# Altium footprint library PCB - LEADLESS - QFN - AD FC2QFN-17 F173A3F+1F.PCBLIB: 1 footprints
Each footprint in its own frame and in the unit in brackets; x right, y up, seen from the top. Pads: shape width x height; smd on the part's side, far side on the other; paste and mask are expansions set on the pad; w line width, h text height; cw(c..) or ccw(c..) is an arc to the next point about the centre after c.
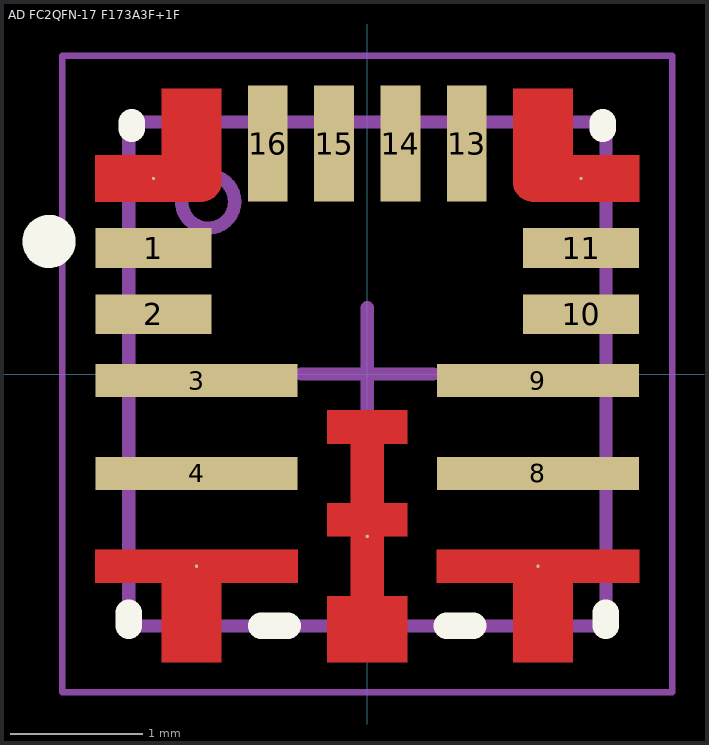
[diagram p0: the footprint, top view; thin cyan lines are the x and y axes]

## AD FC2QFN-17 F173A3F+1F [mm] "17-QFN (3.5x3.75)"
height 0.8
pads (17):
  rect 0.875x0.3 smd: 1(-1.613,0.95) 2(-1.613,0.45) 10(1.613,0.45) 11(1.613,0.95)
  rect 1.525x0.25 smd: 3(-1.288,-0.05) 4(-1.288,-0.75) 8(1.288,-0.75) 9(1.288,-0.05)
  round 0.025 smd: 5(-1.288,-1.45) 6(0,-1.225) 7(1.288,-1.45) 12(1.613,1.475) 17(-1.613,1.475)
  rect 0.3x0.875 smd: 13(0.75,1.737) 14(0.25,1.737) 15(-0.25,1.737) 16(-0.75,1.737)
Top Layer:
  region: -0.3,-0.275 0.3,-0.275 0.3,-0.525 0.125,-0.525 0.125,-0.975 0.3,-0.975 0.3,-1.225 0.125,-1.225 0.125,-1.675 0.3,-1.675 0.3,-2.175 -0.3,-2.175 -0.3,-1.675 -0.125,-1.675 -0.125,-1.225 -0.3,-1.225 -0.3,-0.975 -0.125,-0.975 -0.125,-0.525 -0.3,-0.525
  region: -1.1,1.45 -1.1,2.15 -1.55,2.15 -1.55,1.65 -2.05,1.65 -2.05,1.3 -1.25,1.3 -1.235,1.3 -1.206,1.306 -1.179,1.317 -1.154,1.333 -1.133,1.354 -1.117,1.379 -1.106,1.406 -1.1,1.435
  region: -0.525,-1.575 -1.1,-1.575 -1.1,-2.175 -1.55,-2.175 -1.55,-1.575 -2.05,-1.575 -2.05,-1.325 -0.525,-1.325
  region: 0.525,-1.575 1.1,-1.575 1.1,-2.175 1.55,-2.175 1.55,-1.575 2.05,-1.575 2.05,-1.325 0.525,-1.325
  region: 1.1,1.45 1.1,2.15 1.55,2.15 1.55,1.65 2.05,1.65 2.05,1.3 1.25,1.3 1.235,1.3 1.206,1.306 1.179,1.317 1.154,1.333 1.133,1.354 1.117,1.379 1.106,1.406 1.1,1.435
Top Overlay:
  circle w0.2: c-2.4,1 r0.1
  lines w0.2: -1.8,-1.9 -1.8,-1.8 ; -1.775,1.85 -1.775,1.9 ; -0.8,-1.9 -0.6,-1.9 ; 0.6,-1.9 0.8,-1.9 ; 1.775,1.85 1.775,1.9 ; 1.8,-1.9 1.8,-1.8
Mechanical 13:
  circle w0.1: c-1.2,1.3 r0.2
  lines w0.1: -1.8,-1.9 1.8,-1.9 1.8,1.9 -1.8,1.9 -1.8,-1.9
Mechanical 15 (Mech15):
  lines w0.05: -2.3,-2.4 2.3,-2.4 2.3,2.4 -2.3,2.4 -2.3,-2.4
  lines w0.1: -0.5,0 0,0 ; 0,-0.5 0,0 ; 0,0.5 0,0 ; 0.5,0 0,0
3D body "AD FC2QFN-17 F173A3F+1F v1.step": height 0.8, standoff 0, extent -1.775,-1.9 1.775,1.9